# EAGLE library part TINY328 (library Tiny328)
Tiny328 ATmega328P and RFM12B wireless node, all pins + silkscreen. http://nathan.chantrell.net/tiny328
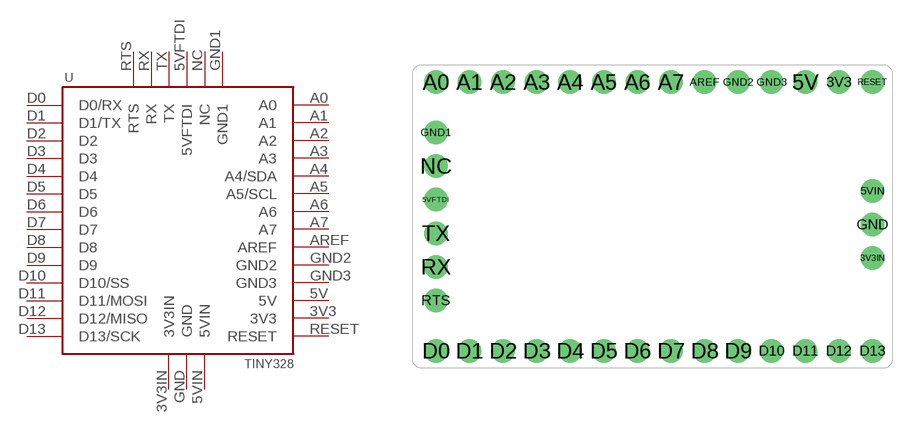
[diagram p0: symbol with the pads of TINY328; footprint TINY328]

Designator prefix -

## TINY328  [TINY328]
3V3  3V3
3V3IN  3V3IN
5V  5V
5VFTDI  5VFTDI
5VIN  5VIN
A0  A0
A1  A1
A2  A2
A3  A3
A4  A4/SDA
A5  A5/SCL
A6  A6
A7  A7
AREF  AREF
D0  D0/RX
D1  D1/TX
D2  D2
D3  D3
D4  D4
D5  D5
D6  D6
D7  D7
D8  D8
D9  D9
D10  D10/SS
D11  D11/MOSI
D12  D12/MISO
D13  D13/SCK
GND  GND
GND1  GND1
GND2  GND2
GND3  GND3
NC  NC
RESET  RESET
RTS  RTS
RX  RX
TX  TX

## Footprint TINY328 (pad centres in mm)
drill 1.016 pad 1.778: 3V3 13.97,10.16; 3V3IN 16.51,-3.15; 5V 11.43,10.16; 5VFTDI -16.51,1.27; 5VIN 16.51,1.93; A0 -16.51,10.16; A1 -13.97,10.16; A2 -11.43,10.16; A3 -8.89,10.16; A4 -6.35,10.16; A5 -3.81,10.16; A6 -1.27,10.16; A7 1.27,10.16; AREF 3.81,10.16; D0 -16.51,-10.16; D1 -13.97,-10.16; D2 -11.43,-10.16; D3 -8.89,-10.16; D4 -6.35,-10.16; D5 -3.81,-10.16; D6 -1.27,-10.16; D7 1.27,-10.16; D8 3.81,-10.16; D9 6.35,-10.16; D10 8.89,-10.16; D11 11.43,-10.16; D12 13.97,-10.16; D13 16.51,-10.16; GND 16.51,-0.61; GND1 -16.51,6.35; GND2 6.35,10.16; GND3 8.89,10.16; NC -16.51,3.81; RESET 16.51,10.16; RTS -16.51,-6.35; RX -16.51,-3.81; TX -16.51,-1.27